# Altium schematic symbol library ICs.SchLib: 29 symbols (part 1 of 2)
Pins are listed as number, name and electrical type; pins without a type are passive.

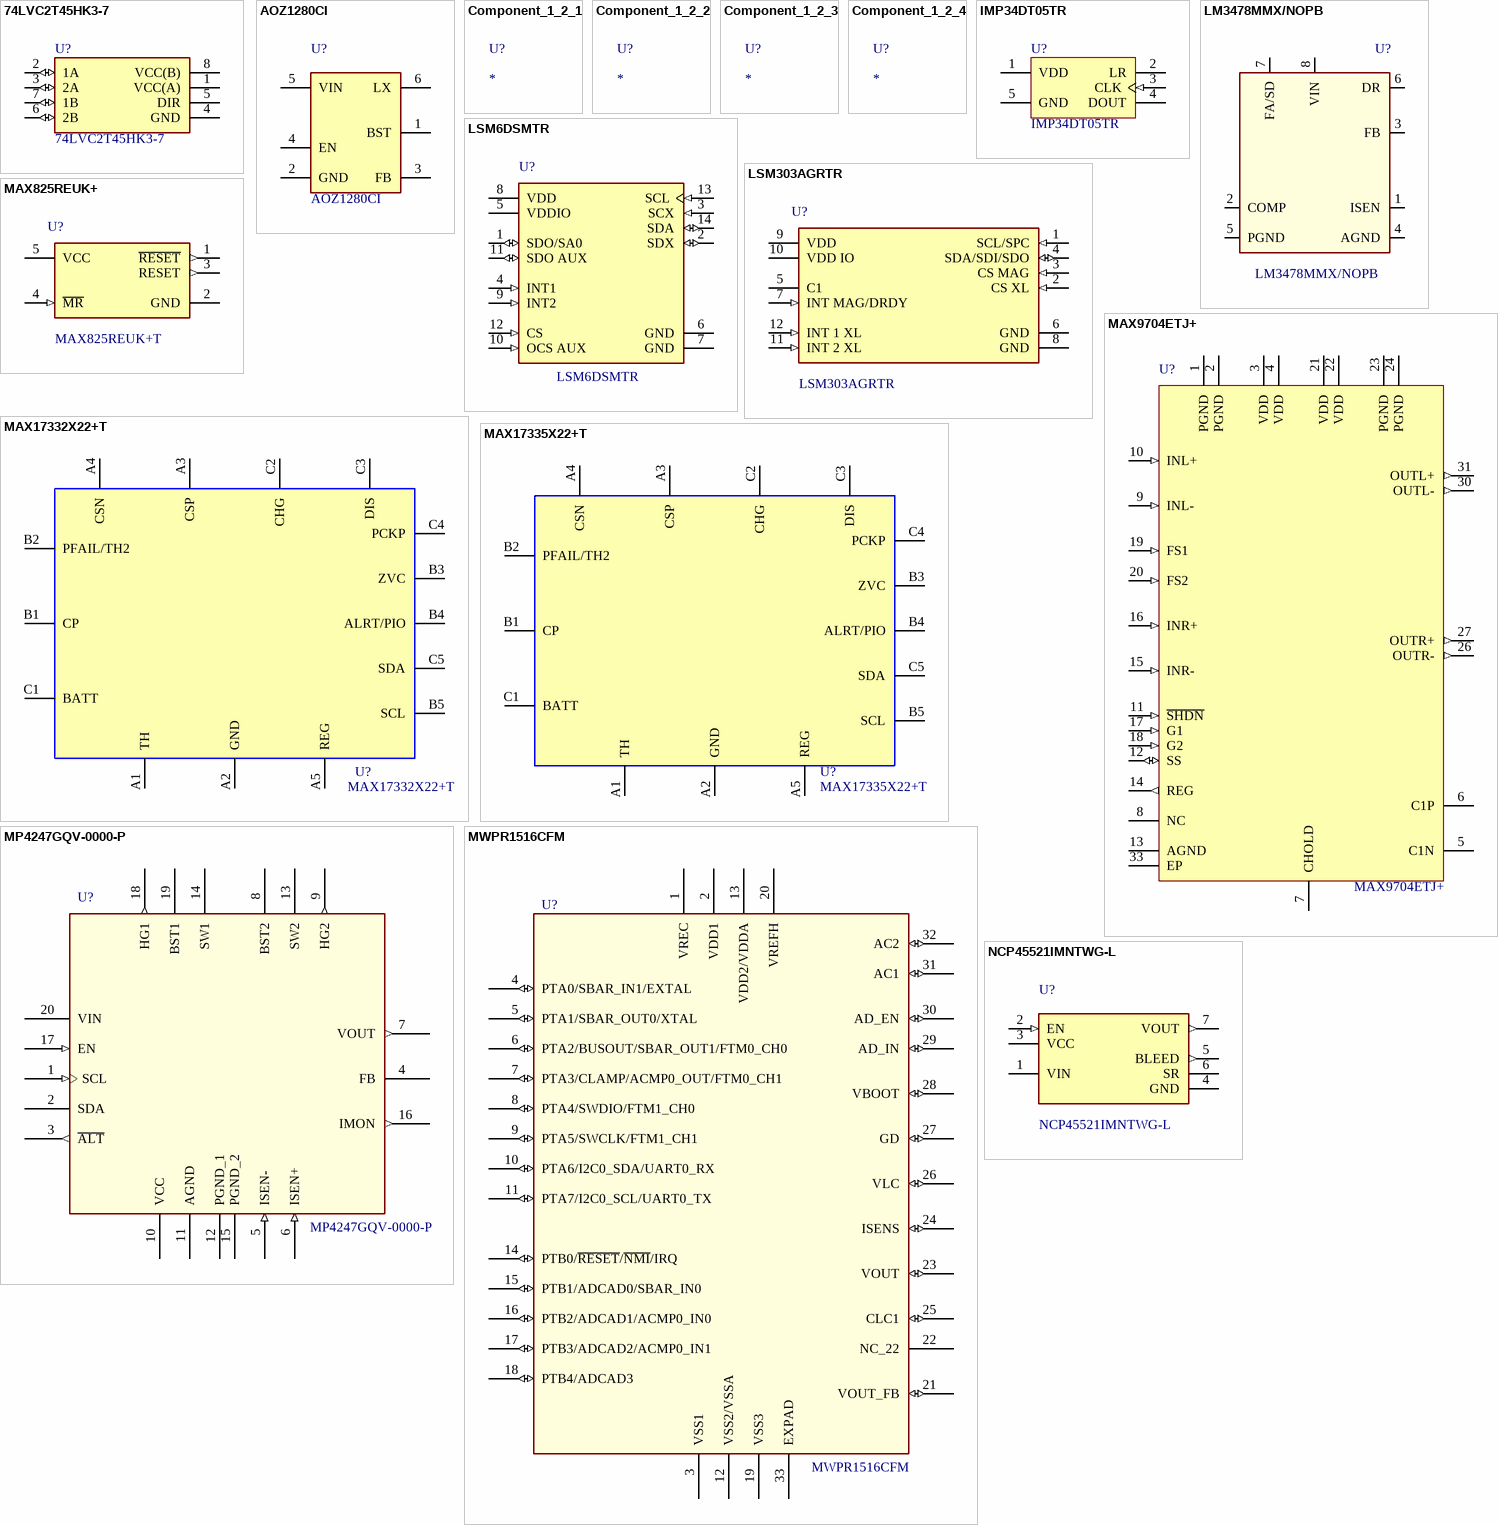
[diagram p0: symbols 74LVC2T45HK3-7 to NCP45521IMNTWG-L]

## 74LVC2T45HK3-7
designator U?
Transceiver, Translating, -40 To 150Degc Rohs Compliant: Yes |Diodes Inc. 74LVC2T45HK3-7; Manufacturer: Diodes; Library: Hexabitz; Supplier: Digikey; Supplier Part Number: 31-74LVC2T45HK3-7DKR-ND; Manufacturer Part Number: 74LVC2T45HK3-7; RoHS: No; Category: Voltage Level Shifters; Stock: 12877; Pricing: 1=0.27, 10=0.184, 25=0.1632, 100=0.1398, 250=0.12876, 500=0.12208, 1000=0.11659, 2500=0.11414 (USD); Supplier 1: Digikey; Supplier Part Number 1: 31-74LVC2T45HK3-7DKR-ND
footprint X2-DFN1410-8
pins: 1 VCC(A) (power), 2 1A (io), 3 2A (io), 4 GND (power), 5 DIR, 6 2B (io), 7 1B (io), 8 VCC(B) (power)

## AOZ1280CI
designator U?
Conv DC-DC 3V to 26V Step Down Single-Out 0.8V to 26V 1.2A 6-Pin SOT-23 T/R; Manufacturer: Alpha & Omega Semiconductor; Library: Hexabitz; Frequency: 1.5MHz; Max Supply Voltage: 23V; Supplier: Digikey; Supplier Part Number: 785-1277-6-ND; RoHS: Yes; Category: Voltage Regulators - Switching; Stock: 522946; Pricing: 1=1.04, 10=0.751, 25=0.678, 100=0.5979, 250=0.55972, 500=0.53664, 1000=0.51767 (USD); Min Supply Voltage: 3V; ComponentLink1URL: https://datasheet.ciiva.com/26861/getdatasheetpartid-627689-26861543.pdf?src-supplier=Verical; ComponentLink1Description: https://datasheet.ciiva.com/26861/getdatasheetpartid-627689-26861543.pdf?src-supplier=Verical; ComponentLink2URL: https://datasheet.ciiva.com/2037/aoz1280ci-2037058.pdf?src-supplier=Digikey; ComponentLink2Description: https://datasheet.ciiva.com/2037/aoz1280ci-2037058.pdf?src-supplier=Digikey; ComponentLink3URL: https://datasheet.ciiva.com/2037/aoz1280ci-2037059.pdf?src-supplier=Digikey; ComponentLink3Description: https://datasheet.ciiva.com/2037/aoz1280ci-2037059.pdf?src-supplier=Digikey; ComponentLink4URL: https://datasheet.ciiva.com/2037/aoz1280ci-2037060.pdf?src-supplier=Digikey; ComponentLink4Description: https://datasheet.ciiva.com/2037/aoz1280ci-2037060.pdf?src-supplier=Digikey; Supplier 1: Digikey; Supplier Part Number 1: 785-1277-6-ND; Manufacturer Part Number: AOZ1280CI
footprint SOT95P280X125-6N
pins: 1 BST, 2 GND, 3 FB, 4 EN, 5 VIN, 6 LX

## Component_1_2_1
designator U?
Library: Hexabitz

## Component_1_2_2
designator U?
Library: Hexabitz

## Component_1_2_3
designator U?
Library: Hexabitz

## Component_1_2_4
designator U?
Library: Hexabitz

## IMP34DT05TR
designator U?
IMP34DT05: 3.6V MEMS Audio Sensor Omnidirectional Digital Microphone - HCLGA-4LD; Manufacturer: STMicroelectronics; Library: Hexabitz; Shape: Rectangular; Voltage Rating: 1.8V; Operating Supply Current: 650uA; Value: 100pF; Frequency: 2.4MHz; Min Supply Voltage: 1.6V; Power Supply Rejection Ratio (PSRR): 64dB; Manufacturer Part Number: IMP34DT05TR; RoHS: Yes; Category: Microphones; Stock: 2701; Pricing: 1=1.87, 10=1.72, 50=1.52, 100=1.44, 1000=1.25, 10000=1.14 (USD); Min Operating Temperature: -40°C; Max Operating Temperature: 85°C; Direction: Omnidirectional; Packaging: Cut Tape; Termination: Solder; Series: -; Current: 650uA; Max Supply Voltage: 3.6V; Nominal Supply Current: 650uA; Operating Supply Voltage: 1.8V; Signal to Noise Ratio (SNR): 64dB; Height: 1.1mm; RoHS Compliant: Yes; ComponentLink1URL: https://www.st.com/resource/en/datasheet/imp34dt05.pdf?src-supplier=Digikey; ComponentLink1Description: https://www.st.com/resource/en/datasheet/imp34dt05.pdf?src-supplier=Digikey; Supplier: Digikey; Supplier Part Number: 497-18183-6-ND; Supplier 1: Mouser; Supplier Part Number 1: 511-IMP34DT05TR; Supplier 2: Digikey; Supplier Part Number 2: 497-18183-6-ND
footprint FP-HCLGA4_DM00231908-MFG
pins: 1 VDD (power), 2 LR, 3 CLK (in), 4 DOUT, 5 GND (power)

## LM3478MMX/NOPB
designator U?
IC REG CTRLR MULT TOP 8VSSOP; Manufacturer: TI National Semiconductor; Library: Hexabitz; Number of Outputs: 1; Output Voltage: 1.26V; Output Current: 1A; Clock Frequency: 1MHz; Duty Cycle: 100%; Quiescent Current: 2.7mA; Operating Supply Voltage: 40V; Topology: Boost,Flyback,SEPIC; Output Configuration: Positive; Synchronous Rectifier: No; Supplier: Digikey; Supplier Part Number: LM3478MMX/NOPBDKR-ND; RoHS: Yes; Category: Voltage Regulators - Switching; Stock: 2695; Pricing: 1=2.34, 10=1.735, 25=1.5836, 100=1.4176, 250=1.3384, 500=1.29068, 1000=1.25137 (USD); Mounting Technology: Surface Mount; Case/Package: VSSOP; Pins: 8; Min Operating Temperature: -40°C; Max Operating Temperature: 125°C; Packaging: Tape and Reel; Switching Frequency: 1MHz; Max Duty Cycle: 100%; Series: -; Number of Output Phases: 1; Clock Sync: No; Lead Free: Lead Free; RoHS Compliant: Yes; ComponentLink1URL: https://datasheet.ciiva.com/6597/lm3478-6597062.pdf?src-supplier=Digikey; ComponentLink1Description: https://datasheet.ciiva.com/6597/lm3478-6597062.pdf?src-supplier=Digikey; ComponentLink2URL: https://datasheet.ciiva.com/6597/lm3478-6597063.pdf?src-supplier=Digikey; ComponentLink2Description: https://datasheet.ciiva.com/6597/lm3478-6597063.pdf?src-supplier=Digikey; Supplier 1: Digikey; Supplier Part Number 1: LM3478MMX/NOPBDKR-ND; Supplier 2: Mouser; Supplier Part Number 2: 926-LM3478MMX/NOPB; Manufacturer Part Number: LM3478MMX/NOPB
footprint DGK0008A_N (TSOP, 8-Leads, Body 3.1x3.1mm, Pitch 0.65mm, IPC Medium Density)
pins: 1 ISEN, 2 COMP, 3 FB (power), 4 AGND, 5 PGND, 6 DR, 7 FA/SD, 8 VIN

## LSM6DSMTR
designator U?
iNEMO inertial module: 3D accelerometer and 3D gyroscope; Manufacturer: STMicroelectronics; Library: Hexabitz; Min Supply Voltage: 1.71V; Max Supply Voltage: 3.6V; Sensor Type: Accelerometer,Gyroscope,6 Axis,Temperature; Output Type: SPI,I2C; Operating Supply Voltage: 1.8V; Supplier: Digikey; Supplier Part Number: 497-16696-6-ND; RoHS: Yes; Category: Inertial Measurement Units (IMUs); Stock: 16945; Pricing: 1=3.92, 10=2.965, 25=2.7248, 100=2.461, 250=2.33524, 500=2.25944, 1000=2.19705, 2500=2.13118 (USD); Mounting Technology: Surface Mount; Case/Package: LGA; Pins: 14; Min Operating Temperature: -40°C; Max Operating Temperature: 85°C; Packaging: Cut Tape; Series: -; Height: 860um; Reach SVHC Compliant: No; RoHS Compliant: Yes; ComponentLink1URL: http://www.farnell.com/datasheets/2151220.pdf?src-supplier=Farnell; ComponentLink1Description: http://www.farnell.com/datasheets/2151220.pdf?src-supplier=Farnell; ComponentLink2URL: https://www.mouser.com/ds/2/389/lsm6dsm-973702.pdf?src-supplier=Mouser; ComponentLink2Description: https://www.mouser.com/ds/2/389/lsm6dsm-973702.pdf?src-supplier=Mouser; ComponentLink3URL: https://datasheet.octopart.com/LSM6DSMTR-STMicroelectronics-datasheet-141402780.pdf?src-supplier=Element14; ComponentLink3Description: https://datasheet.octopart.com/LSM6DSMTR-STMicroelectronics-datasheet-141402780.pdf?src-supplier=Element14; ComponentLink4URL: http://www.farnell.com/datasheets/2151220.pdf?src-supplier=Newark; ComponentLink4Description: http://www.farnell.com/datasheets/2151220.pdf?src-supplier=Newark; ComponentLink5URL: https://datasheet.octopart.com/LSM6DSMTR-STMicroelectronics-datasheet-79471837.pdf?src-supplier=Future+Electronics; ComponentLink5Description: https://datasheet.octopart.com/LSM6DSMTR-STMicroelectronics-datasheet-79471837.pdf?src-supplier=Future+Electronics; ComponentLink6URL: http://www.st.com/content/ccc/resource/sales_and_marketing/promotional_material/flyer/7a/04/ee/af/e2/19/46/66/fllsm6dsm0216.pdf/files/fllsm6dsm0216.pdf/jcr:content/translations/en.fllsm6dsm0216.pdf?src-supplier=Digikey; ComponentLink6Description: http://www.st.com/content/ccc/resource/sales_and_marketing/promotional_material/flyer/7a/04/ee/af/e2/19/46/66/fllsm6dsm0216.pdf/files/fllsm6dsm0216.pdf/jcr:content/translations/en.fllsm6dsm0216.pdf?src-supplier=Digikey; ComponentLink7URL: http://www.st.com/content/ccc/resource/technical/document/datasheet/76/27/cf/88/c5/03/42/6b/DM00218116.pdf/files/DM00218116.pdf/jcr:content/translations/en.DM00218116.pdf?src-supplier=Digikey; ComponentLink7Description: http://www.st.com/content/ccc/resource/technical/document/datasheet/76/27/cf/88/c5/03/42/6b/DM00218116.pdf/files/DM00218116.pdf/jcr:content/translations/en.DM00218116.pdf?src-supplier=Digikey; ComponentLink8URL: https://datasheet.octopart.com/LSM6DSMTR-STMicroelectronics-datasheet-62333594.pdf?src-supplier=Newark; ComponentLink8Description: https://datasheet.octopart.com/LSM6DSMTR-STMicroelectronics-datasheet-62333594.pdf?src-supplier=Newark; Supplier 1: Digikey; Supplier Part Number 1: 497-16696-6-ND; Manufacturer Part Number: LSM6DSMTR
footprint FP-LGA-14L-DM00249496-MFG
pins: 1 SDO/SA0 (io), 2 SDX (io), 3 SCX (in), 4 INT1 (in), 5 VDDIO (power), 6 GND (power), 7 GND (power), 8 VDD (power), 9 INT2 (in), 10 OCS AUX (in), 11 SDO AUX (io), 12 CS (in), 13 SCL (in), 14 SDA (io)

## LSM303AGRTR
designator U?
IMU ACCEL/MAG I2C/SPI 12LGA / ultra-low-power 3D accelerometer and 3D magnetometer; Manufacturer: STMicroelectronics; Library: Hexabitz; Axis: 6196AxisType; Supplier: Digikey; Supplier Part Number: 497-16527-6-ND; RoHS: Yes; Category: Inertial Measurement Units (IMUs); Stock: 23456; Pricing: 1=5, 5=4.49, 10=4.301, 25=4.074, 50=3.9188, 100=3.7768, 500=3.519 (USD); Height: 1mm; ComponentLink1URL: http://www.farnell.com/datasheets/2151221.pdf?src-supplier=Farnell; ComponentLink1Description: http://www.farnell.com/datasheets/2151221.pdf?src-supplier=Farnell; ComponentLink2URL: https://www.mouser.com/ds/2/389/lsm303agr-954987.pdf?src-supplier=Mouser; ComponentLink2Description: https://www.mouser.com/ds/2/389/lsm303agr-954987.pdf?src-supplier=Mouser; ComponentLink3URL: https://datasheet.octopart.com/LSM303AGRTR-STMicroelectronics-datasheet-67357094.pdf?src-supplier=Element14; ComponentLink3Description: https://datasheet.octopart.com/LSM303AGRTR-STMicroelectronics-datasheet-67357094.pdf?src-supplier=Element14; ComponentLink4URL: http://www.farnell.com/datasheets/2151221.pdf?src-supplier=Newark; ComponentLink4Description: http://www.farnell.com/datasheets/2151221.pdf?src-supplier=Newark; ComponentLink5URL: http://www.st.com/content/ccc/resource/technical/document/datasheet/74/c4/19/54/62/c5/46/13/DM00177685.pdf/files/DM00177685.pdf/jcr:content/translations/en.DM00177685.pdf?src-supplier=Digikey; ComponentLink5Description: http://www.st.com/content/ccc/resource/technical/document/datasheet/74/c4/19/54/62/c5/46/13/DM00177685.pdf/files/DM00177685.pdf/jcr:content/translations/en.DM00177685.pdf?src-supplier=Digikey; Supplier 1: Digikey; Supplier Part Number 1: 497-16527-6-ND; Manufacturer Part Number: LSM303AGRTR
footprint FP-LGA-12-8487206-MFG
pins: 1 SCL/SPC (in), 2 CS XL (in), 3 CS MAG (in), 4 SDA/SDI/SDO (io), 5 C1, 6 GND (power), 7 INT MAG/DRDY (in), 8 GND (power), 9 VDD (power), 10 VDD IO (power), 11 INT 2 XL (in), 12 INT 1 XL (in)

## MAX825REUK+
designator U?  Manufacturer Part Number: MAX825REUK+T  (hidden comment: MAX825REUK+)
Processor Supervisor 2.63V 2.5V/3V/3.3V/5V 5-Pin SOT-23 T/R; Manufacturer: Maxim; Library: Hexabitz; Supplier: Digikey; RoHS: Yes; Category: Voltage Supervisors; Stock: 5079; Pricing: 1=5.92, 10=4.537, 25=4.1916, 100=3.8115, 250=3.63028, 500=3.52106, 1000=3.43115 (USD); ComponentLink1URL: https://datasheet.ciiva.com/1973/max823-max825z-1973548.pdf?src-supplier=Digikey; ComponentLink1Description: https://datasheet.ciiva.com/1973/max823-max825z-1973548.pdf?src-supplier=Digikey; ComponentLink2URL: https://datasheet.ciiva.com/1973/max823-max825z-1973549.pdf?src-supplier=Digikey; ComponentLink2Description: https://datasheet.ciiva.com/1973/max823-max825z-1973549.pdf?src-supplier=Digikey; ComponentLink3URL: https://datasheet.ciiva.com/1973/max823-max825z-1973550.pdf?src-supplier=Digikey; ComponentLink3Description: https://datasheet.ciiva.com/1973/max823-max825z-1973550.pdf?src-supplier=Digikey; Supplier 1: Digikey; Supplier Part Number 1: MAX825REUK+TDKR-ND; Supplier Part Number: MAX825REUK+TDKR-ND
footprint FP-U5-1-MFG
pins: 1 ~{RESET} (out), 2 GND (power), 3 RESET (out), 4 ~{MR} (in), 5 VCC (power)

## MAX9704ETJ+
designator U?
Audio Amp Speaker 2-CH Stereo 16W Class-D 32-Pin TQFN EP; Manufacturer: Maxim; Library: Hexabitz; ComponentLink1URL: https://datasheet.ciiva.com/2967/max9703-max9704-2967821.pdf?src-supplier=Avnet; ComponentLink1Description: https://datasheet.ciiva.com/2967/max9703-max9704-2967821.pdf?src-supplier=Avnet; ComponentLink2URL: https://datasheet.ciiva.com/1792/max9703-max9704-1792107.pdf?src-supplier=Digikey; ComponentLink2Description: https://datasheet.ciiva.com/1792/max9703-max9704-1792107.pdf?src-supplier=Digikey; Supplier: Digikey; Supplier Part Number: MAX9704ETJ+-ND; Manufacturer Part Number: MAX9704ETJ+; RoHS: Yes; Category: Amplifiers - Audio; Stock: 3637; Pricing: 1=5.53, 10=4.249, 43=3.77558, 129=3.52744, 258=3.425 (USD); Supplier 1: Digikey; Supplier Part Number 1: MAX9704ETJ+-ND
footprint QFN65P700X700X80-33N; pin to pad 26>26+25 27>27+28 30>30+29 31>31+32
pins: 1 PGND (power), 2 PGND (power), 3 VDD (power), 4 VDD (power), 5 C1N, 6 C1P, 7 CHOLD, 8 NC, 9 INL- (in), 10 INL+ (in), 11 ~{SHDN} (in), 12 SS (io), 13 AGND (power), 14 REG (out), 15 INR- (in), 16 INR+ (in), 17 G1 (in), 18 G2 (in), 19 FS1 (in), 20 FS2 (in), 21 VDD (power), 22 VDD (power), 23 PGND (power), 24 PGND (power), 26 OUTR- (out), 27 OUTR+ (out), 30 OUTL- (out), 31 OUTL+ (out), 33 EP (power)

## MAX17332X22+T
designator U?
AccuCharge + ModelGauge m5 EZ 1-Cell Charger, Fuel Gauge, and Protector; Manufacturer: Analog Devices; Library: Hexabitz; Supplier: Mouser; Supplier Part Number: 700-MAX17332X22+T; RoHS: No; Stock: 412; Pricing: 1=8.28, 10=5.89, 50=5.62, 100=4.88, 1000=3.7, 10000=3.38 (USD); ComponentLink1Description: datasheet; ComponentLink1URL: https://www.analog.com/media/en/technical-documentation/data-sheets/max17332.pdf; Parameter 1: *; ComponentLink2Description: Manufature Page; ComponentLink2URL: https://www.analog.com/en/products/max17332.html?ADICID=synd_ww_portfolio_pi_octopart_na_2024; Manufacturer Part Number: MAX17332X22+T
footprint BGA15C50P5X3_245X191X69
pins: A1 TH, A2 GND, A3 CSP, A4 CSN, A5 REG, B1 CP, B2 PFAIL/TH2, B3 ZVC, B4 ALRT/PIO, B5 SCL, C1 BATT, C2 CHG, C3 DIS, C4 PCKP, C5 SDA

## MAX17335X22+T
designator U?
AccuCharge + ModelGauge m5 EZ 1-Cell Charger, Fuel Gauge, and Protector; Manufacturer: Analog Devices; Library: Hexabitz; Supplier: Digikey; Supplier Part Number: 175-MAX17335X22+TDKR-ND; Manufacturer Part Number: MAX17335X22+T; RoHS: No; Pricing: 1=6.44, 10=4.947, 25=4.5748, 100=4.1656, 250=3.97048, 500=3.85286, 1000=3.75603 (USD); Supplier 1: Digikey; Supplier Part Number 1: 175-MAX17335X22+TDKR-ND; Supplier 2: Mouser; Supplier Part Number 2: 584-MAX17335X22+T; Supplier 3: Verical; Supplier Part Number 3: MAX17335X22+T; Supplier 4: Arrow Electronics; Supplier Part Number 4: MAX17335X22+T
footprint BGA15C50P5X3_245X191X69
pins: A1 TH, A2 GND, A3 CSP, A4 CSN, A5 REG, B1 CP, B2 PFAIL/TH2, B3 ZVC, B4 ALRT/PIO, B5 SCL, C1 BATT, C2 CHG, C3 DIS, C4 PCKP, C5 SDA

## MP4247GQV-0000-P
designator U?
36V 100W Buck-Boost Converter with Integrated Low-Side Power MOSFETs and I2C Interface; Manufacturer: Monolithic Power Systems; Library: Hexabitz; ComponentLink1Description: datasheet; ComponentLink1URL: https://www.monolithicpower.com/en/documentview/productdocument/index/version/2/document_type/Datasheet/lang/en/sku/MP4247GQV/document_id/9935/; ComponentLink2Description: manufacture page; ComponentLink2URL: https://www.monolithicpower.com/en/mp4247.html; Supplier: Mouser; Supplier Part Number: 946-MP4247GQV0000P; RoHS: No; Pricing: 1=5.28, 10=3.63, 50=3.39, 100=2.98, 1000=1.97, 10000=1.96 (USD); Stock: 1000; Supplier 1: Monolithic Power Systems; Supplier Part Number 1: MP4247GQV-0000-P; Manufacturer Part Number: MP4247GQV-0000-P
footprint QFN20_3P1X5P1MM
pins: 1 SCL (in), 2 SDA, 3 ~{ALT} (out), 4 FB, 5 ISEN- (in), 6 ISEN+ (in), 7 VOUT (out), 8 BST2, 9 HG2 (out), 10 VCC (power), 11 AGND (power), 12 PGND_1 (power), 13 SW2, 14 SW1, 15 PGND_2 (power), 16 IMON (out), 17 EN (in), 18 HG1 (out), 19 BST1, 20 VIN (power)

## MWPR1516CFM
designator U?
Wireless Charger Receiver ASSP with ARM Cortex-M0+ core, 16KB Flash,; Manufacturer: NXP Semiconductors; Library: Hexabitz; Supplier: Mouser; Supplier Part Number: 841-MWPR1516CFM; RoHS: No; Category: Power Management ICs; Stock: 1443; Pricing: 1=4.3, 10=3.91, 50=3.31, 100=3.11, 1000=2.45, 10000=2.34 (USD); ComponentLink1URL: http://www.mouser.com/ds/2/302/WPR1516-783294.pdf?src-supplier=Mouser; ComponentLink1Description: http://www.mouser.com/ds/2/302/WPR1516-783294.pdf?src-supplier=Mouser; ComponentLink2URL: http://cache.freescale.com/files/microcontrollers/doc/data_sheet/WPR1516.pdf?src-supplier=Avnet; ComponentLink2Description: http://cache.freescale.com/files/microcontrollers/doc/data_sheet/WPR1516.pdf?src-supplier=Avnet; ComponentLink3URL: https://datasheet.octopart.com/MWPR1516CFM-NXP-Semiconductors-datasheet-145017605.pdf?src-supplier=LCSC; ComponentLink3Description: https://datasheet.octopart.com/MWPR1516CFM-NXP-Semiconductors-datasheet-145017605.pdf?src-supplier=LCSC; ComponentLink4Description: package-information; ComponentLink4URL: https://www.nxp.com/docs/en/package-information/SOT1426-2.pdf; ComponentLink5Description: ata-sheet; ComponentLink5URL: https://www.nxp.com/docs/en/data-sheet/WPR1516.pdf; Supplier 1: Digikey; Supplier Part Number 1: MWPR1516CFM-ND; Manufacturer Part Number: MWPR1516CFM
footprint QFN32_S142EP
pins: 1 VREC (power), 2 VDD1 (power), 3 VSS1 (power), 4 PTA0/SBAR_IN1/EXTAL (io), 5 PTA1/SBAR_OUT0/XTAL (io), 6 PTA2/BUSOUT/SBAR_OUT1/FTM0_CH0 (io), 7 PTA3/CLAMP/ACMP0_OUT/FTM0_CH1 (io), 8 PTA4/SWDIO/FTM1_CH0 (io), 9 PTA5/SWCLK/FTM1_CH1 (io), 10 PTA6/I2C0_SDA/UART0_RX (io), 11 PTA7/I2C0_SCL/UART0_TX (io), 12 VSS2/VSSA (power), 13 VDD2/VDDA (power), 14 PTB0/~{RESET}/~{NMI}/IRQ (io), 15 PTB1/ADCAD0/SBAR_IN0 (io), 16 PTB2/ADCAD1/ACMP0_IN0 (io), 17 PTB3/ADCAD2/ACMP0_IN1 (io), 18 PTB4/ADCAD3 (io), 19 VSS3 (power), 20 VREFH (power), 21 VOUT_FB (io), 22 NC_22, 23 VOUT (io), 24 ISENS (io), 25 CLC1 (io), 26 VLC (io), 27 GD (io), 28 VBOOT (io), 29 AD_IN (io), 30 AD_EN (io), 31 AC1 (io), 32 AC2 (io), 33 EXPAD (power)

## NCP45521IMNTWG-L
designator U?
Load Switch, Integrated, ecoSWITCH™, 11.5 A, Fault Protection; Manufacturer: onsemi; Library: Hexabitz; Number of Outputs: 1; Max Power Dissipation: 2.5W; Interface: On/Off; Max Output current: 10.5A; Voltage: 5.5V; Current: 750A; Fault Protection: Over Temperature; Output Configuration: High Side; Supply Current: 500uA; Supplier: Digikey; Supplier Part Number: NCP45521IMNTWG-LOSDKR-ND; RoHS: Yes; Category: Power Management ICs; Stock: 8636; Pricing: 1=2.25, 10=1.406, 25=1.186, 100=0.9371, 250=0.81472, 500=0.73944, 1000=0.67639 (USD); Mounting Technology: Surface Mount; Case/Package: DFN; Pins: 8; Min Operating Temperature: -40°C; Max Operating Temperature: 85°C; Packaging: Tape and Reel; Package Quantity: 3000; Power Rating: 2.5W; Series: ecoSWITCH™; Length: 1mm; Width: 2mm; Height: 0.95mm; Radiation Hardening: No; Lead Free: Lead Free; Halogen Free: Halogen Free; RoHS Compliant: Yes; ComponentLink1URL: https://datasheet.ciiva.com/8142/ncp45520-d-8142902.pdf?src-supplier=Avnet; ComponentLink1Description: https://datasheet.ciiva.com/8142/ncp45520-d-8142902.pdf?src-supplier=Avnet; Supplier 1: Mouser; Supplier Part Number 1: 863-NCP45521IMNTWG-L; Supplier 2: Digikey; Supplier Part Number 2: NCP45521IMNTWG-LOSDKR-ND; Manufacturer Part Number: NCP45521IMNTWG-L
footprint 8-DFN; pin to pad 1>1+9 7>7+8
pins: 1 VIN (power), 2 EN (in), 3 VCC (power), 4 GND, 5 BLEED (out), 6 SR, 7 VOUT (out)

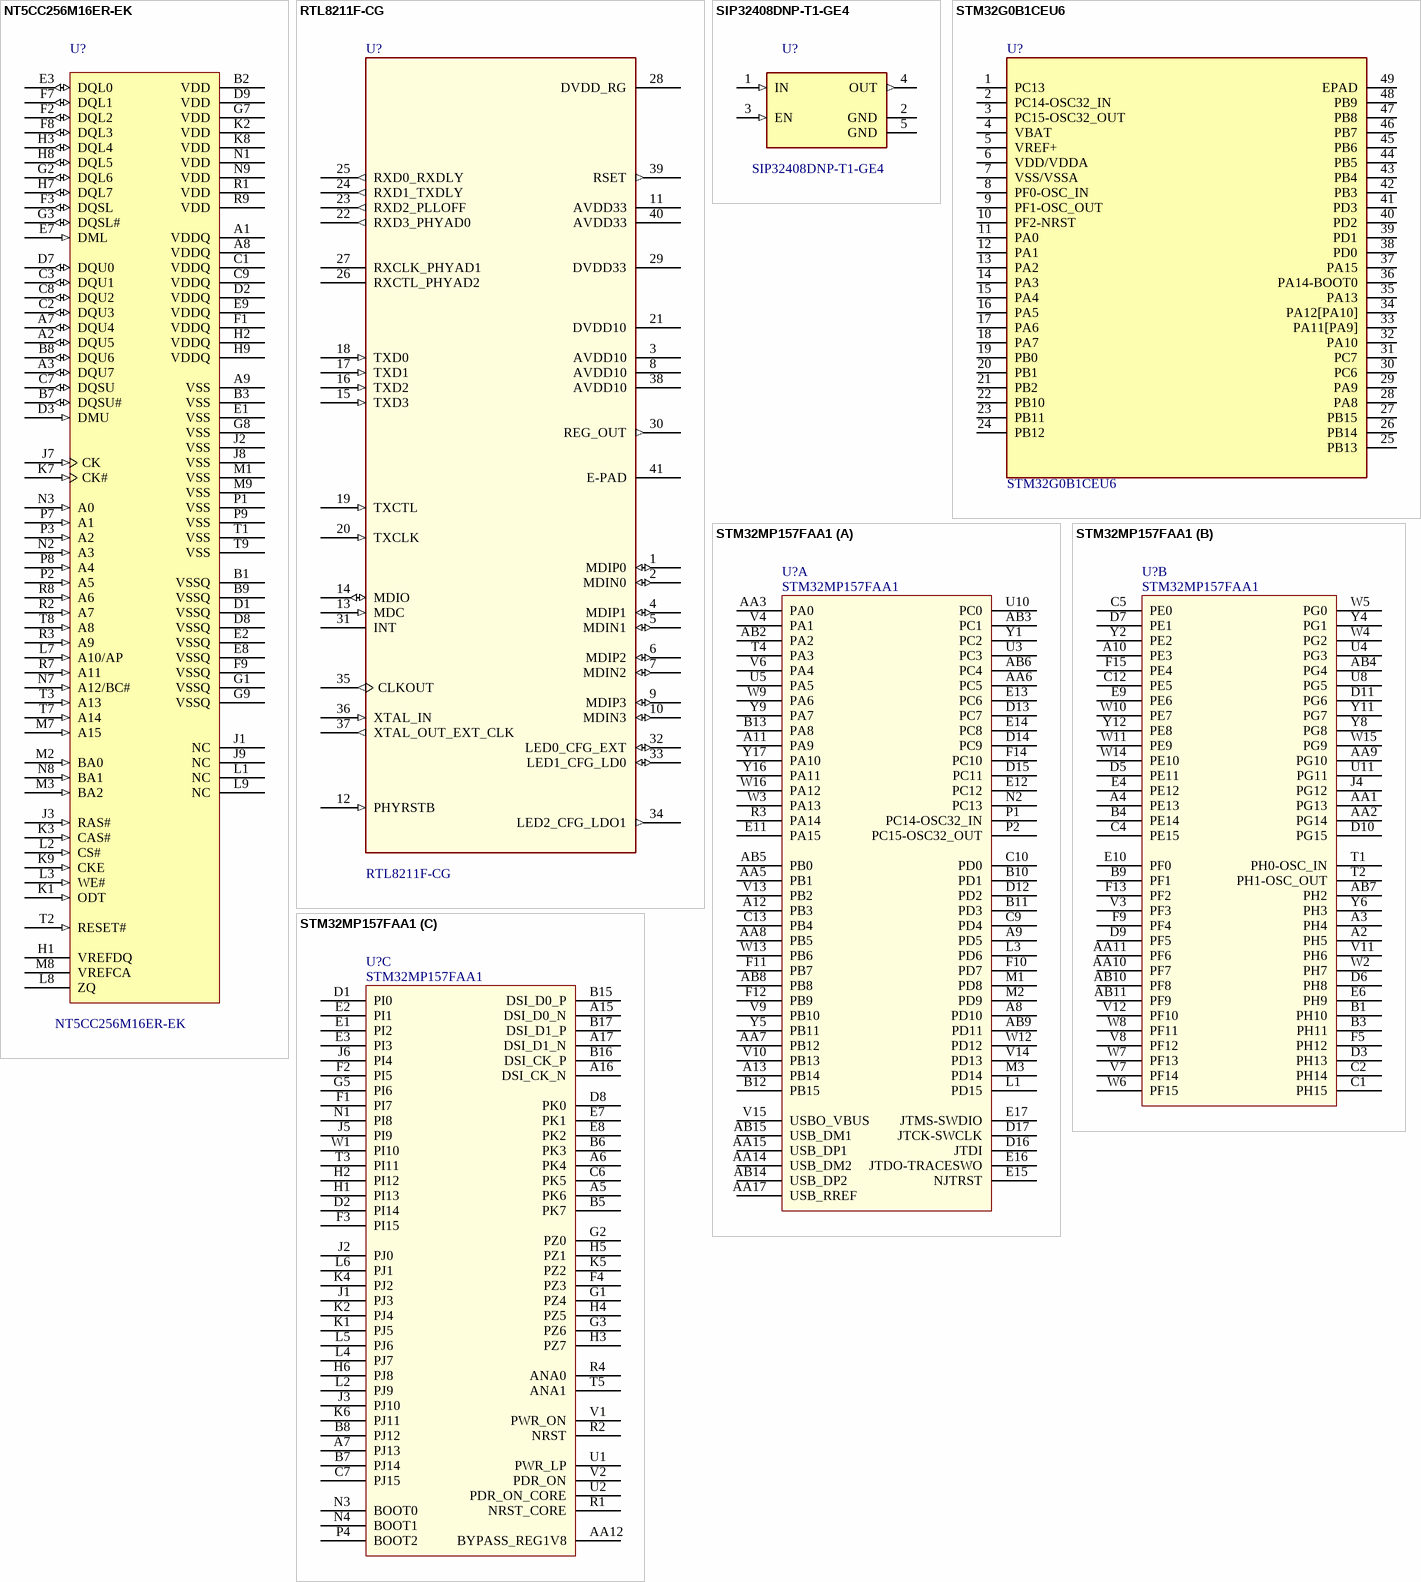
[diagram p1: symbols NT5CC256M16ER-EK to STM32MP157FAA1]

## NT5CC256M16ER-EK
designator U?
DRAM Chip DDR3L SDRAM 4Gbit 256Mx16 1.35V 96-Pin TFBGA; Manufacturer: Nanya; Library: Hexabitz; Supplier: Sourcengine; Supplier Part Number: NT5CC256M16ER-EK; RoHS: Yes; Category: LDO; Stock: 10000; RoHS Compliant: Yes; Supplier 1: Sourcengine; Supplier Part Number 1: NT5CC256M16ER-EK; Manufacturer Part Number: NT5CC256M16ER-EK
footprint ICC_FBGA96_9X13_8X14_P080_DI
pins: A1 VDDQ (power) "DQ Power Supply: 1.5 V +/- 0.075 V for standard voltage or 1.35V +0.1V, -0.067V for low voltage", A2 DQU5 (io) "Data Input/ Output: Bi-directional data bus.", A3 DQU7 (io) "Data Input/ Output: Bi-directional data bus.", A7 DQU4 (io) "Data Input/ Output: Bi-directional data bus.", A8 VDDQ (power) "DQ Power Supply: 1.5 V +/- 0.075 V for standard voltage or 1.35V +0.1V, -0.067V for low voltage", A9 VSS (power) "Ground", B1 VSSQ (power) "DQ Ground", B2 VDD (power) "Power Supply: 1.5 V +/- 0.075 V for standard voltage or 1.35V +0.1V, -0.067V for low voltage", B3 VSS (power) "Ground", B7 DQSU# (io) "Data Strobe: output with read data, input with write data. Edge-aligned with read data, centered in write data. For the x16, DQSL corresponds to the data on DQL0-DQL7; DQSU corresponds to the data on DQU0-DQU7. The data strobes DQS, DQSL, and DQSU are pa", B8 DQU6 (io) "Data Input/ Output: Bi-directional data bus.", B9 VSSQ (power) "DQ Ground", C1 VDDQ (power) "DQ Power Supply: 1.5 V +/- 0.075 V for standard voltage or 1.35V +0.1V, -0.067V for low voltage", C2 DQU3 (io) "Data Input/ Output: Bi-directional data bus.", C3 DQU1 (io) "Data Input/ Output: Bi-directional data bus.", C7 DQSU (io) "Data Strobe: output with read data, input with write data. Edge-aligned with read data, centered in write data. For the x16, DQSL corresponds to the data on DQL0-DQL7; DQSU corresponds to the data on DQU0-DQU7. The data strobes DQS, DQSL, and DQSU are pa", C8 DQU2 (io) "Data Input/ Output: Bi-directional data bus.", C9 VDDQ (power) "DQ Power Supply: 1.5 V +/- 0.075 V for standard voltage or 1.35V +0.1V, -0.067V for low voltage", D1 VSSQ (power) "DQ Ground", D2 VDDQ (power) "DQ Power Supply: 1.5 V +/- 0.075 V for standard voltage or 1.35V +0.1V, -0.067V for low voltage", D3 DMU (in) "Input Data Mask: DM is an input mask signal for write data. Input data is masked when DM is sampled HIGH coincident with that input data during a Write access. DM is sampled on both edges of DQS. For x8 device, the function of DM or TDQS/TDQS# is enabled", D7 DQU0 (io) "Data Input/ Output: Bi-directional data bus.", D8 VSSQ (power) "DQ Ground", D9 VDD (power) "Power Supply: 1.5 V +/- 0.075 V for standard voltage or 1.35V +0.1V, -0.067V for low voltage", E1 VSS (power) "Ground", E2 VSSQ (power) "DQ Ground", E3 DQL0 (io) "Data Input/ Output: Bi-directional data bus.", E7 DML (in) "Input Data Mask: DM is an input mask signal for write data. Input data is masked when DM is sampled HIGH coincident with that input data during a Write access. DM is sampled on both edges of DQS. For x8 device, the function of DM or TDQS/TDQS# is enabled", E8 VSSQ (power) "DQ Ground", E9 VDDQ (power) "DQ Power Supply: 1.5 V +/- 0.075 V for standard voltage or 1.35V +0.1V, -0.067V for low voltage", F1 VDDQ (power) "DQ Power Supply: 1.5 V +/- 0.075 V for standard voltage or 1.35V +0.1V, -0.067V for low voltage", F2 DQL2 (io) "Data Input/ Output: Bi-directional data bus.", F3 DQSL (io) "Data Strobe: output with read data, input with write data. Edge-aligned with read data, centered in write data. For the x16, DQSL corresponds to the data on DQL0-DQL7; DQSU corresponds to the data on DQU0-DQU7. The data strobes DQS, DQSL, and DQSU are pa", F7 DQL1 (io) "Data Input/ Output: Bi-directional data bus.", F8 DQL3 (io) "Data Input/ Output: Bi-directional data bus.", F9 VSSQ (power) "DQ Ground", G1 VSSQ (power) "DQ Ground", G2 DQL6 (io) "Data Input/ Output: Bi-directional data bus.", G3 DQSL# (io) "Data Strobe: output with read data, input with write data. Edge-aligned with read data, centered in write data. For the x16, DQSL corresponds to the data on DQL0-DQL7; DQSU corresponds to the data on DQU0-DQU7. The data strobes DQS, DQSL, and DQSU are pa", G7 VDD (power) "Power Supply: 1.5 V +/- 0.075 V for standard voltage or 1.35V +0.1V, -0.067V for low voltage", G8 VSS (power) "Ground", G9 VSSQ (power) "DQ Ground", H1 VREFDQ "Reference voltage for DQ", H2 VDDQ (power) "DQ Power Supply: 1.5 V +/- 0.075 V for standard voltage or 1.35V +0.1V, -0.067V for low voltage", H3 DQL4 (io) "Data Input/ Output: Bi-directional data bus.", H7 DQL7 (io) "Data Input/ Output: Bi-directional data bus.", H8 DQL5 (io) "Data Input/ Output: Bi-directional data bus.", H9 VDDQ (power) "DQ Power Supply: 1.5 V +/- 0.075 V for standard voltage or 1.35V +0.1V, -0.067V for low voltage", J1 NC "No Connect: No internal electrical connection is present.", J2 VSS (power) "Ground", J3 RAS# (in) "Command Inputs: RAS#, CAS# and WE# (along with CS#) define the command being entered.", J7 CK (in) "Clock: CK and CK# are differential clock inputs. All address and control input signals are sampled on the crossing of the positive edge of CK and negative edge of CK#.", J8 VSS (power) "Ground", J9 NC "No Connect: No internal electrical connection is present.", K1 ODT (in) "On Die Termination: ODT (registered HIGH) enables termination resistance internal to the DDR3 SDRAM. When enabled, ODT is only applied to each DQ, DQSU, DQSU#, DQSL, DQSL#, DMU, and DML signal. The ODT pin will be ignored if MR1 and MR2 are programmed to", K2 VDD (power) "Power Supply: 1.5 V +/- 0.075 V for standard voltage or 1.35V +0.1V, -0.067V for low voltage", K3 CAS# (in) "Command Inputs: RAS#, CAS# and WE# (along with CS#) define the command being entered.", K7 CK# (in) "Clock: CK and CK# are differential clock inputs. All address and control input signals are sampled on the crossing of the positive edge of CK and negative edge of CK#.", K8 VDD (power) "Power Supply: 1.5 V +/- 0.075 V for standard voltage or 1.35V +0.1V, -0.067V for low voltage", K9 CKE (in) "Clock Enable: CKE HIGH activates, and CKE Low deactivates, internal clock signals and device input buffers and output drivers. Taking CKE Low provides Precharge Power-Down and Self-Refresh operation (all banks idle), or Active Power-Down (row Active in a", L1 NC "No Connect: No internal electrical connection is present.", L2 CS# (in) "Chip Select: All commands are masked when CS# is registered HIGH. CS# provides for external Rank selection on systems with multiple Ranks. CS# is considered part of the command code.", L3 WE# (in) "Command Inputs: RAS#, CAS# and WE# (along with CS#) define the command being entered.", L7 A10/AP (in) "Auto-precharge: A10 is sampled during Read/Write commands to determine whether Autoprecharge should be performed to the accessed bank after the Read/Write operation. (HIGH: Autoprecharge; LOW: no Autoprecharge). A10 is sampled during a Precharge command", L8 ZQ "Reference Pin for ZQ", L9 NC "No Connect: No internal electrical connection is present.", M1 VSS (power) "Ground", M2 BA0 (in) "Bank Address Inputs: BA0 - BA2 define to which bank an Active, Read, Write, or Precharge command is being applied. Bank address also determines which mode register is to be accessed during a MRS cycle.", M3 BA2 (in) "Bank Address Inputs: BA0 - BA2 define to which bank an Active, Read, Write, or Precharge command is being applied. Bank address also determines which mode register is to be accessed during a MRS cycle.", M7 A15 (in) "Burst Chop: A12 / BC# is sampled during Read and Write commands to determine if burst chop (on-the-fly) will be performed. (HIGH, no burst chop; LOW: burst chopped). See command truth table for details.", M8 VREFCA "Reference voltage for CA", M9 VSS (power) "Ground", N1 VDD (power) "Power Supply: 1.5 V +/- 0.075 V for standard voltage or 1.35V +0.1V, -0.067V for low voltage", N2 A3 (in) "Address Inputs: Provide the row address for Active commands and the column address for Read/ Write commands to select one location out of the memory array in the respective bank. (A10/AP and A12/BC# have additional functions; see below). The address inpu", N3 A0 (in) "Address Inputs: Provide the row address for Active commands and the column address for Read/ Write commands to select one location out of the memory array in the respective bank. (A10/AP and A12/BC# have additional functions; see below). The address inpu", N7 A12/BC# (in) "Burst Chop: A12 / BC# is sampled during Read and Write commands to determine if burst chop (on-the-fly) will be performed. (HIGH, no burst chop; LOW: burst chopped). See command truth table for details.", N8 BA1 (in) "Bank Address Inputs: BA0 - BA2 define to which bank an Active, Read, Write, or Precharge command is being applied. Bank address also determines which mode register is to be accessed during a MRS cycle.", N9 VDD (power) "Power Supply: 1.5 V +/- 0.075 V for standard voltage or 1.35V +0.1V, -0.067V for low voltage", P1 VSS (power) "Ground", P2 A5 (in) "Address Inputs: Provide the row address for Active commands and the column address for Read/ Write commands to select one location out of the memory array in the respective bank. (A10/AP and A12/BC# have additional functions; see below). The address inpu", P3 A2 (in) "Address Inputs: Provide the row address for Active commands and the column address for Read/ Write commands to select one location out of the memory array in the respective bank. (A10/AP and A12/BC# have additional functions; see below). The address inpu", P7 A1 (in) "Address Inputs: Provide the row address for Active commands and the column address for Read/ Write commands to select one location out of the memory array in the respective bank. (A10/AP and A12/BC# have additional functions; see below). The address inpu", P8 A4 (in) "Address Inputs: Provide the row address for Active commands and the column address for Read/ Write commands to select one location out of the memory array in the respective bank. (A10/AP and A12/BC# have additional functions; see below). The address inpu", P9 VSS (power) "Ground", R1 VDD (power) "Power Supply: 1.5 V +/- 0.075 V for standard voltage or 1.35V +0.1V, -0.067V for low voltage", R2 A7 (in) "Address Inputs: Provide the row address for Active commands and the column address for Read/ Write commands to select one location out of the memory array in the respective bank. (A10/AP and A12/BC# have additional functions; see below). The address inpu", R3 A9 (in) "Address Inputs: Provide the row address for Active commands and the column address for Read/ Write commands to select one location out of the memory array in the respective bank. (A10/AP and A12/BC# have additional functions; see below). The address inpu", R7 A11 (in) "Address Inputs: Provide the row address for Active commands and the column address for Read/ Write commands to select one location out of the memory array in the respective bank. (A10/AP and A12/BC# have additional functions; see below). The address inpu", R8 A6 (in) "Address Inputs: Provide the row address for Active commands and the column address for Read/ Write commands to select one location out of the memory array in the respective bank. (A10/AP and A12/BC# have additional functions; see below). The address inpu", R9 VDD (power) "Power Supply: 1.5 V +/- 0.075 V for standard voltage or 1.35V +0.1V, -0.067V for low voltage", T1 VSS (power) "Ground", T2 RESET# (in) "Active Low Asynchronous Reset: Reset is active when RESET# is LOW, and inactive when RESET# is HIGH. RESET# must be HIGH during normal operation. RESET# is a CMOS rail- to-rail signal with DC high and low at 80% and 20% of VDD, i.e., 1.20V for DC high an", T3 A13 (in) "Burst Chop: A12 / BC# is sampled during Read and Write commands to determine if burst chop (on-the-fly) will be performed. (HIGH, no burst chop; LOW: burst chopped). See command truth table for details.", T7 A14 (in) "Burst Chop: A12 / BC# is sampled during Read and Write commands to determine if burst chop (on-the-fly) will be performed. (HIGH, no burst chop; LOW: burst chopped). See command truth table for details.", T8 A8 (in) "Address Inputs: Provide the row address for Active commands and the column address for Read/ Write commands to select one location out of the memory array in the respective bank. (A10/AP and A12/BC# have additional functions; see below). The address inpu", T9 VSS (power) "Ground"

## RTL8211F-CG
designator U?
Phy 1-CH 10MBPS/100MBPS/1GBPS 3.3V 40-PIN QFN Ep; Manufacturer: Realtek; Library: Hexabitz; Supplier: Worldway Electronics; Supplier Part Number: RTL8211F-CG; RoHS: No; Category: Amplifiers - Op Amps, Buffer, Instrumentation; Stock: 10205; Pricing: 2=0.5612, 10=0.55, 100=0.5331, 500=0.5163, 1000=0.5051 (USD); RoHS Compliant: No; Supplier 1: Worldway Electronics; Supplier Part Number 1: RTL8211F-CG; Manufacturer Part Number: RTL8211F-CG
footprint ICC_QFN40-EPAD_5X5_P040
pins: 1 MDIP0 (io), 2 MDIN0 (io), 3 AVDD10 (power), 4 MDIP1 (io), 5 MDIN1 (io), 6 MDIP2 (io), 7 MDIN2 (io), 8 AVDD10 (power), 9 MDIP3 (io), 10 MDIN3 (io), 11 AVDD33 (power), 12 PHYRSTB (in), 13 MDC (in), 14 MDIO (io), 15 TXD3 (in), 16 TXD2 (in), 17 TXD1 (in), 18 TXD0 (in), 19 TXCTL (in), 20 TXCLK (in), 21 DVDD10 (power), 22 RXD3_PHYAD0 (out), 23 RXD2_PLLOFF (out), 24 RXD1_TXDLY (out), 25 RXD0_RXDLY (out), 26 RXCTL_PHYAD2, 27 RXCLK_PHYAD1, 28 DVDD_RG (power), 29 DVDD33 (power), 30 REG_OUT (out), 31 INT, 32 LED0_CFG_EXT (io), 33 LED1_CFG_LD0 (io), 34 LED2_CFG_LDO1 (out), 35 CLKOUT (out), 36 XTAL_IN (in), 37 XTAL_OUT_EXT_CLK (out), 38 AVDD10 (power), 39 RSET (out), 40 AVDD33 (power), 41 E-PAD (power)

## SIP32408DNP-T1-GE4
designator U?
SWITCH, SLEW CNTRL, 5.5V, 3.5A, 4TDFN; Power Load Switch Type: High Side; Input V; Manufacturer: Vishay Siliconix; Library: Hexabitz; Number of Outputs: 1; Max Power Dissipation: 735mW; Min Supply Voltage: 1.1V; Interface: On/Off; On-State Resistance: 44mR; Fault Protection: Reverse Current; Supplier: Digikey; Supplier Part Number: SIP32408DNP-T1-GE4DKR-ND; RoHS: Yes; Category: Hot Swap Controllers; Stock: 19922; Pricing: 1=0.46, 10=0.321, 25=0.286, 100=0.2482, 250=0.23004, 500=0.21914, 1000=0.21015 (USD); Mounting Technology: Surface Mount; Pins: 4; Weight: 0.001764oz; Min Operating Temperature: -40°C; Max Operating Temperature: 85°C; Package Quantity: 3000; Packaging: Tape and Reel; Output Current: 3.5A; Max Supply Voltage: 5.5V; Max Output current: 3.5A; Power Dissipation: 735mW; Output Configuration: High Side; Series: -; Lead Free: Lead Free; RoHS Compliant: Yes; Reach SVHC Compliant: Unknown; ComponentLink1URL: https://datasheet.ciiva.com/22629/1692703-22629056.pdf?src-supplier=Element14; ComponentLink1Description: https://datasheet.ciiva.com/22629/1692703-22629056.pdf?src-supplier=Element14; ComponentLink2URL: https://datasheet.ciiva.com/12186/sip32408-244424-12186651.pdf?src-supplier=Mouser; ComponentLink2Description: https://datasheet.ciiva.com/12186/sip32408-244424-12186651.pdf?src-supplier=Mouser; Supplier 1: Digikey; Supplier Part Number 1: SIP32408DNP-T1-GE4DKR-ND; Manufacturer Part Number: SIP32408DNP-T1-GE4
footprint FP-T16-0143-MFG
pins: 1 IN (in), 2 GND (power), 3 EN (in), 4 OUT (out), 5 GND (power)

## STM32G0B1CEU6
designator U?
MCU 32-bit ARM Cortex M0+ RISC 512KB Flash 1.8V/2.5V/3.3V 48-Pin UFQFPN EP Tray; Manufacturer: STMicroelectronics; Library: Hexabitz; Supplier: Digikey; Supplier Part Number: 497-STM32G0B1CEU6-ND; Manufacturer Part Number: STM32G0B1CEU6; RoHS: Yes; Category: Microcontrollers; Stock: 4305; Pricing: 1=4.78, 10=3.635, 25=3.3488, 100=3.0347, 260=2.87923, 520=2.7899, 1040=2.71638, 2600=2.63877 (USD); Supplier 1: Digikey; Supplier Part Number 1: 497-STM32G0B1CEU6-ND
footprint QFN50P700X700X65-49N-D
pins: 1 PC13, 2 PC14-OSC32_IN, 3 PC15-OSC32_OUT, 4 VBAT, 5 VREF+, 6 VDD/VDDA, 7 VSS/VSSA, 8 PF0-OSC_IN, 9 PF1-OSC_OUT, 10 PF2-NRST, 11 PA0, 12 PA1, 13 PA2, 14 PA3, 15 PA4, 16 PA5, 17 PA6, 18 PA7, 19 PB0, 20 PB1, 21 PB2, 22 PB10, 23 PB11, 24 PB12, 25 PB13, 26 PB14, 27 PB15, 28 PA8, 29 PA9, 30 PC6, 31 PC7, 32 PA10, 33 PA11[PA9], 34 PA12[PA10], 35 PA13, 36 PA14-BOOT0, 37 PA15, 38 PD0, 39 PD1, 40 PD2, 41 PD3, 42 PB3, 43 PB4, 44 PB5, 45 PB6, 46 PB7, 47 PB8, 48 PB9, 49 EPAD

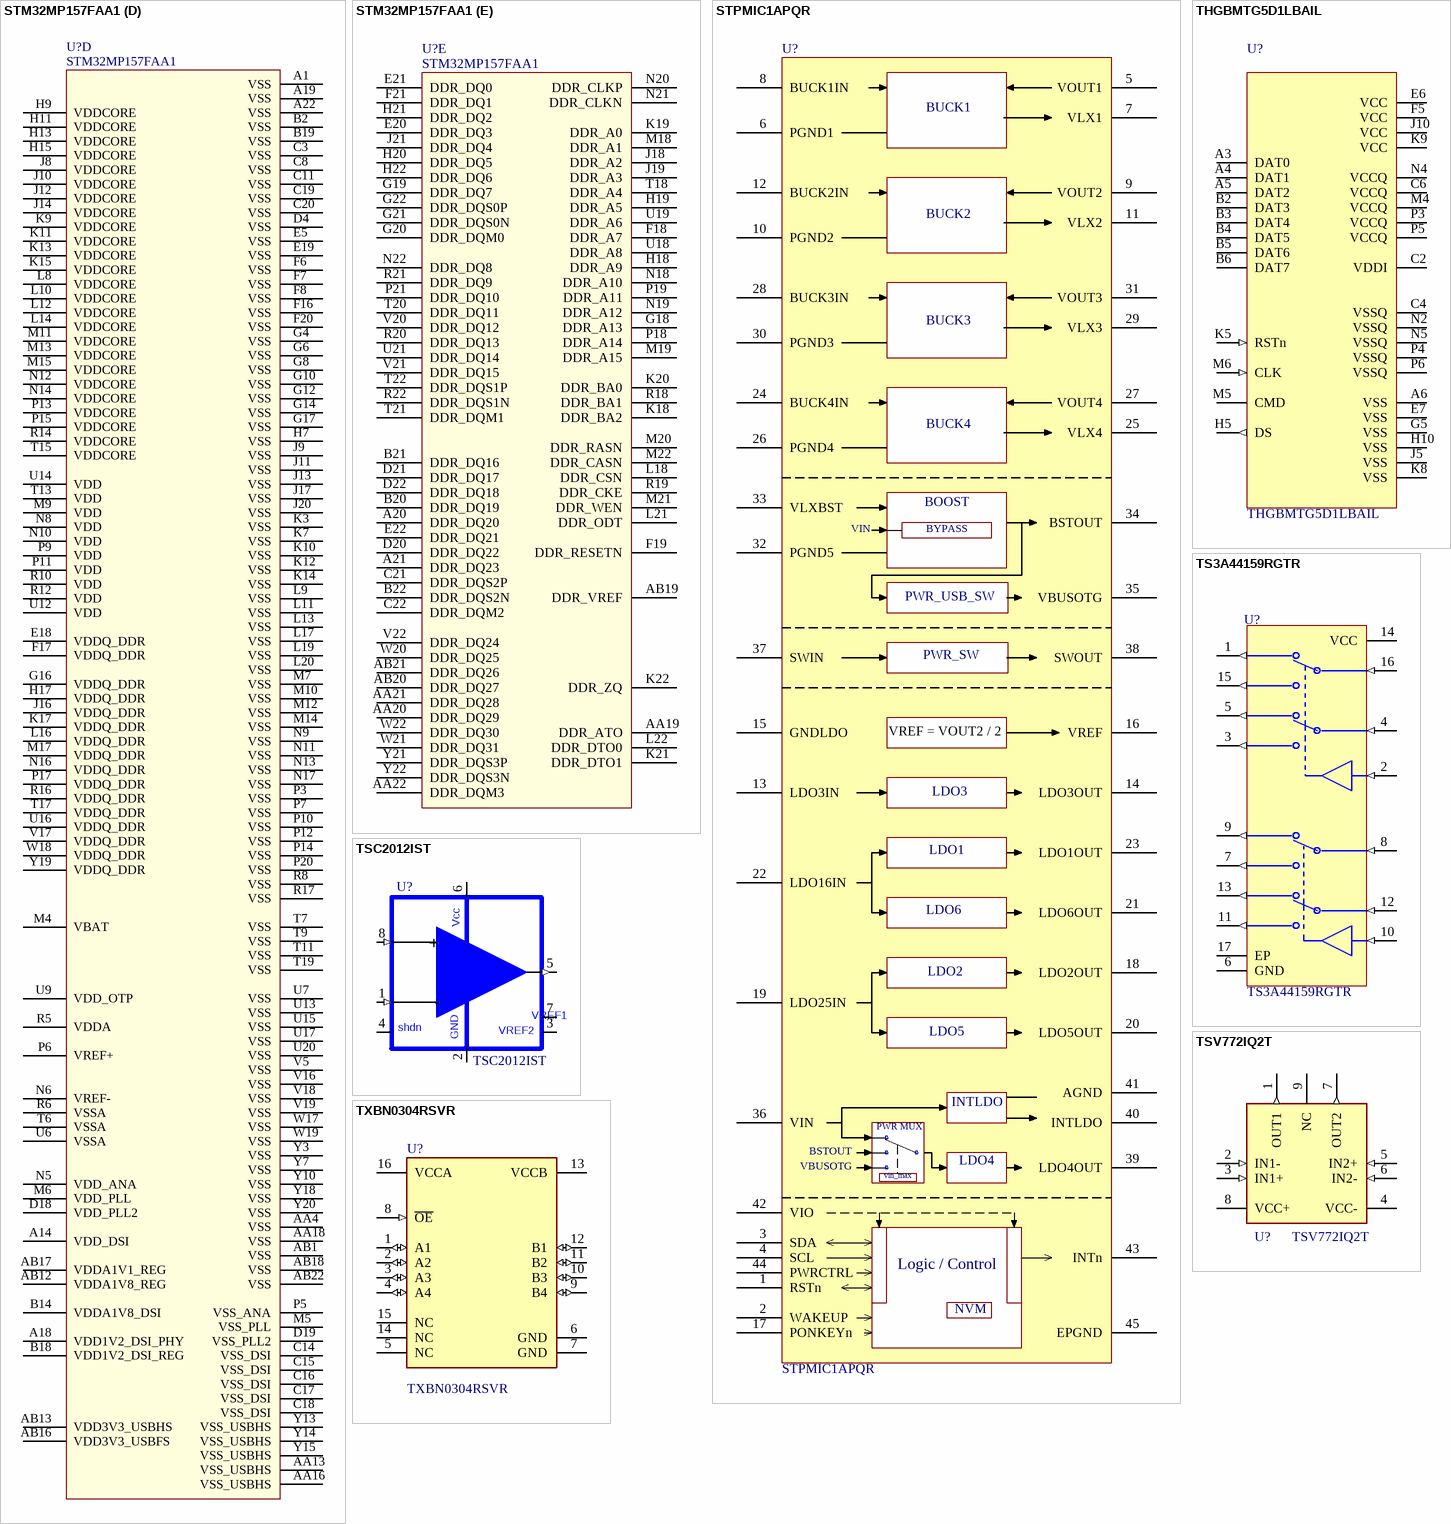
[diagram p2: symbols STM32MP157FAA1 to TXBN0304RSVR]

## STM32MP157FAA1
designator U?
Microprocessor ARM Dual Cortex-A7/ARM Cortex-M4 RISC 32-Bit 800MHz 448-Pin LFBGA Tray; Manufacturer: STMicroelectronics; Library: Hexabitz; Supplier: Digikey; Supplier Part Number: 497-STM32MP157FAA1-ND; Manufacturer Part Number: STM32MP157FAA1; RoHS: Yes; Category: Microprocessors; Stock: 400; Pricing: 1=17.92, 10=14.249, 84=12.43143, 168=12.03833, 252=11.84147, 504=11.5528 (USD); ComponentLink1URL: https://datasheet.octopart.com/STM32MP157FAA1-STMicroelectronics-datasheet-147459737.pdf?src-supplier=Future+Electronics; ComponentLink1Description: https://datasheet.octopart.com/STM32MP157FAA1-STMicroelectronics-datasheet-147459737.pdf?src-supplier=Future+Electronics; ComponentLink2URL: https://www.st.com/resource/en/datasheet/stm32mp157c.pdf?src-supplier=Digikey; ComponentLink2Description: https://www.st.com/resource/en/datasheet/stm32mp157c.pdf?src-supplier=Digikey; Supplier 1: Digikey; Supplier Part Number 1: 497-STM32MP157FAA1-ND
footprint ICC_LFBGA448_18X18_STM32MP157BAA3_P080__SOCKET_IE_CS1627194MF
part A pins: A8 PD10, A9 PD5, A11 PA9, A12 PB3, A13 PB14, AA3 PA0, AA5 PB1, AA6 PC5, AA7 PB12, AA8 PB5, AA14 USB_DM2, AA15 USB_DP1, AA17 USB_RREF, AB2 PA2, AB3 PC1, AB5 PB0, AB6 PC4, AB8 PB8, AB9 PD11, AB14 USB_DP2, AB15 USB_DM1, B10 PD1, B11 PD3, B12 PB15, B13 PA8, C9 PD4, C10 PD0, C13 PB4, D12 PD2, D13 PC7, D14 PC9, D15 PC11, D16 JTDI, D17 JTCK-SWCLK, E11 PA15, E12 PC12, E13 PC6, E14 PC8, E15 NJTRST, E16 JTDO-TRACESWO, E17 JTMS-SWDIO, F10 PD7, F11 PB7, F12 PB9, F14 PC10, L1 PD15, L3 PD6, M1 PD8, M2 PD9, M3 PD14, N2 PC13, P1 PC14-OSC32_IN, P2 PC15-OSC32_OUT, R3 PA14, T4 PA3, U3 PC3, U5 PA5, U10 PC0, V4 PA1, V6 PA4, V9 PB10, V10 PB13, V13 PB2, V14 PD13, V15 USBO_VBUS, W3 PA13, W9 PA6, W12 PD12, W13 PB6, W16 PA12, Y1 PC2, Y5 PB11, Y9 PA7, Y16 PA11, Y17 PA10
part B pins: A2 PH5, A3 PH4, A4 PE13, A10 PE3, AA1 PG13, AA2 PG14, AA9 PG10, AA10 PF7, AA11 PF6, AB4 PG4, AB7 PH2, AB10 PF8, AB11 PF9, B1 PH10, B3 PH11, B4 PE14, B9 PF1, C1 PH15, C2 PH14, C4 PE15, C5 PE0, C12 PE5, D3 PH13, D5 PE11, D6 PH8, D7 PE1, D9 PF5, D10 PG15, D11 PG6, E4 PE12, E6 PH9, E9 PE6, E10 PF0, F5 PH12, F9 PF4, F13 PF2, F15 PE4, J4 PG12, T1 PH0-OSC_IN, T2 PH1-OSC_OUT, U4 PG3, U8 PG5, U11 PG11, V3 PF3, V7 PF14, V8 PF12, V11 PH6, V12 PF10, W2 PH7, W4 PG2, W5 PG0, W6 PF15, W7 PF13, W8 PF11, W10 PE7, W11 PE9, W14 PE10, W15 PG9, Y2 PE2, Y4 PG1, Y6 PH3, Y8 PG8, Y11 PG7, Y12 PE8
part C pins: A5 PK6, A6 PK4, A7 PJ13, A15 DSI_D0_N, A16 DSI_CK_N, A17 DSI_D1_N, AA12 BYPASS_REG1V8, B5 PK7, B6 PK3, B7 PJ14, B8 PJ12, B15 DSI_D0_P, B16 DSI_CK_P, B17 DSI_D1_P, C6 PK5, C7 PJ15, D1 PI0, D2 PI14, D8 PK0, E1 PI2, E2 PI1, E3 PI3, E7 PK1, E8 PK2, F1 PI7, F2 PI5, F3 PI15, F4 PZ3, G1 PZ4, G2 PZ0, G3 PZ6, G5 PI6, H1 PI13, H2 PI12, H3 PZ7, H4 PZ5, H5 PZ1, H6 PJ8, J1 PJ3, J2 PJ0, J3 PJ10, J5 PI9, J6 PI4, K1 PJ5, K2 PJ4, K4 PJ2, K5 PZ2, K6 PJ11, L2 PJ9, L4 PJ7, L5 PJ6, L6 PJ1, N1 PI8, N3 BOOT0, N4 BOOT1, P4 BOOT2, R1 NRST_CORE, R2 NRST, R4 ANA0, T3 PI11, T5 ANA1, U1 PWR_LP, U2 PDR_ON_CORE, V1 PWR_ON, V2 PDR_ON, W1 PI10
part D pins: A1 VSS, A14 VDD_DSI, A18 VDD1V2_DSI_PHY, A19 VSS, A22 VSS, AA4 VSS, AA13 VSS_USBHS, AA16 VSS_USBHS, AA18 VSS, AB1 VSS, AB12 VDDA1V8_REG, AB13 VDD3V3_USBHS, AB16 VDD3V3_USBFS, AB17 VDDA1V1_REG, AB18 VSS, AB22 VSS, B2 VSS, B14 VDDA1V8_DSI, B18 VDD1V2_DSI_REG, B19 VSS, C3 VSS, C8 VSS, C11 VSS, C14 VSS_DSI, C15 VSS_DSI, C16 VSS_DSI, C17 VSS_DSI, C18 VSS_DSI, C19 VSS, C20 VSS, D4 VSS, D18 VDD_PLL2, D19 VSS_PLL2, E5 VSS, E18 VDDQ_DDR, E19 VSS, F6 VSS, F7 VSS, F8 VSS, F16 VSS, F17 VDDQ_DDR, F20 VSS, G4 VSS, G6 VSS, G8 VSS, G10 VSS, G12 VSS, G14 VSS, G16 VDDQ_DDR, G17 VSS, H7 VSS, H9 VDDCORE, H11 VDDCORE, H13 VDDCORE, H15 VDDCORE, H17 VDDQ_DDR, J8 VDDCORE, J9 VSS, J10 VDDCORE, J11 VSS, J12 VDDCORE, J13 VSS, J14 VDDCORE, J16 VDDQ_DDR, J17 VSS, J20 VSS, K3 VSS, K7 VSS, K9 VDDCORE, K10 VSS, K11 VDDCORE, K12 VSS, K13 VDDCORE, K14 VSS, K15 VDDCORE, K17 VDDQ_DDR, L8 VDDCORE, L9 VSS, L10 VDDCORE, L11 VSS, L12 VDDCORE, L13 VSS, L14 VDDCORE, L16 VDDQ_DDR, L17 VSS, L19 VSS, L20 VSS, M4 VBAT, M5 VSS_PLL, M6 VDD_PLL, M7 VSS, M9 VDD, M10 VSS, M11 VDDCORE, M12 VSS, M13 VDDCORE, M14 VSS, M15 VDDCORE, M17 VDDQ_DDR, N5 VDD_ANA, N6 VREF-, N8 VDD, N9 VSS, N10 VDD, N11 VSS, N12 VDDCORE, N13 VSS, N14 VDDCORE, N16 VDDQ_DDR, N17 VSS, P3 VSS, P5 VSS_ANA, P6 VREF+, P7 VSS, P9 VDD, P10 VSS, P11 VDD, P12 VSS, P13 VDDCORE, P14 VSS, P15 VDDCORE, P17 VDDQ_DDR, P20 VSS, R5 VDDA, R6 VSSA, R8 VSS, R10 VDD, R12 VDD, R14 VDDCORE, R16 VDDQ_DDR, R17 VSS, T6 VSSA, T7 VSS, T9 VSS, T11 VSS, T13 VDD, T15 VDDCORE, T17 VDDQ_DDR, T19 VSS, U6 VSSA, U7 VSS, U9 VDD_OTP, U12 VDD, U13 VSS, U14 VDD, U15 VSS, U16 VDDQ_DDR, U17 VSS, U20 VSS, V5 VSS, V16 VSS, V17 VDDQ_DDR, V18 VSS, V19 VSS, W17 VSS, W18 VDDQ_DDR, W19 VSS, Y3 VSS, Y7 VSS, Y10 VSS, Y13 VSS_USBHS, Y14 VSS_USBHS, Y15 VSS_USBHS, Y18 VSS, Y19 VDDQ_DDR, Y20 VSS
part E pins: A20 DDR_DQ20, A21 DDR_DQ23, AA19 DDR_ATO, AA20 DDR_DQ29, AA21 DDR_DQ28, AA22 DDR_DQM3, AB19 DDR_VREF, AB20 DDR_DQ27, AB21 DDR_DQ26, B20 DDR_DQ19, B21 DDR_DQ16, B22 DDR_DQS2N, C21 DDR_DQS2P, C22 DDR_DQM2, D20 DDR_DQ22, D21 DDR_DQ17, D22 DDR_DQ18, E20 DDR_DQ3, E21 DDR_DQ0, E22 DDR_DQ21, F18 DDR_A7, F19 DDR_RESETN, F21 DDR_DQ1, G18 DDR_A13, G19 DDR_DQ7, G20 DDR_DQM0, G21 DDR_DQS0N, G22 DDR_DQS0P, H18 DDR_A9, H19 DDR_A5, H20 DDR_DQ5, H21 DDR_DQ2, H22 DDR_DQ6, J18 DDR_A2, J19 DDR_A3, J21 DDR_DQ4, K18 DDR_BA2, K19 DDR_A0, K20 DDR_BA0, K21 DDR_DTO1, K22 DDR_ZQ, L18 DDR_CSN, L21 DDR_ODT, L22 DDR_DTO0, M18 DDR_A1, M19 DDR_A15, M20 DDR_RASN, M21 DDR_WEN, M22 DDR_CASN, N18 DDR_A10, N19 DDR_A12, N20 DDR_CLKP, N21 DDR_CLKN, N22 DDR_DQ8, P18 DDR_A14, P19 DDR_A11, P21 DDR_DQ10, R18 DDR_BA1, R19 DDR_CKE, R20 DDR_DQ13, R21 DDR_DQ9, R22 DDR_DQS1N, T18 DDR_A4, T20 DDR_DQ11, T21 DDR_DQM1, T22 DDR_DQS1P, U18 DDR_A8, U19 DDR_A6, U21 DDR_DQ14, V20 DDR_DQ12, V21 DDR_DQ15, V22 DDR_DQ24, W20 DDR_DQ25, W21 DDR_DQ31, W22 DDR_DQ30, Y21 DDR_DQS3P, Y22 DDR_DQS3N

## STPMIC1APQR
designator U?
Power Management Specialized - PMIC WFQFN 44L 5X6X0.8 PITCH 0.4; Manufacturer: STMicroelectronics; Library: Hexabitz; Max Supply Voltage: 5V; Max Output Voltage: 3.8V; Min Input Voltage: 2.5V; Min Output Voltage: 800mV; Min Supply Voltage: 2.8V; Number of Outputs: 14NUMBER; Output Current: 2A; Quiescent Current: 1mA; Synchronous Rectifier: 5897YesNo; Supplier: Digikey; Supplier Part Number: 497-19781-6-ND; Manufacturer Part Number: STPMIC1APQR; RoHS: Yes; Category: Power Management ICs; Stock: 4506; Pricing: 1=4.67, 10=3.548, 25=3.2684, 100=2.9604, 250=2.81364, 500=2.72514, 1000=2.65233 (USD); Min Operating Temperature: -40°C; Max Operating Temperature: 125°C; Packaging: 10Packaging; Height: 850um; RoHS Compliant: 5897YesNo; ComponentLink1URL: http://www.farnell.com/datasheets/2802536.pdf?src-supplier=Farnell; ComponentLink1Description: http://www.farnell.com/datasheets/2802536.pdf?src-supplier=Farnell; ComponentLink2URL: http://www.farnell.com/datasheets/2802536.pdf?src-supplier=Element14; ComponentLink2Description: http://www.farnell.com/datasheets/2802536.pdf?src-supplier=Element14; Supplier 1: Digikey; Supplier Part Number 1: 497-19781-6-ND
footprint FP-WFQFN44L-MFG
pins: 1 RSTn, 2 WAKEUP, 3 SDA, 4 SCL, 5 VOUT1, 6 PGND1, 7 VLX1, 8 BUCK1IN, 9 VOUT2, 10 PGND2, 11 VLX2, 12 BUCK2IN, 13 LDO3IN, 14 LDO3OUT, 15 GNDLDO, 16 VREF, 17 PONKEYn, 18 LDO2OUT, 19 LDO25IN, 20 LDO5OUT, 21 LDO6OUT, 22 LDO16IN, 23 LDO1OUT, 24 BUCK4IN, 25 VLX4, 26 PGND4, 27 VOUT4, 28 BUCK3IN, 29 VLX3, 30 PGND3, 31 VOUT3, 32 PGND5, 33 VLXBST, 34 BSTOUT, 35 VBUSOTG, 36 VIN, 37 SWIN, 38 SWOUT, 39 LDO4OUT, 40 INTLDO, 41 AGND, 42 VIO, 43 INTn, 44 PWRCTRL, 45 EPGND
text: BUCK1; BUCK2; BUCK3; BUCK4; BOOST; BYPASS; PWR_USB_SW; PWR_SW; VREF = VOUT2 / 2; LDO3; LDO1; LDO6; LDO2; LDO5; PWR MUX; LDO4; vin_max; Logic / Control; NVM

## THGBMTG5D1LBAIL
designator U?
Flash Memory Drive, CMOS, PBGA169; Manufacturer: Kioxia; Library: Hexabitz; Supplier: Digikey; Supplier Part Number: 1853-THGBMTG5D1LBAIL-ND; RoHS: No; Category: Memory; Stock: 16; Pricing: 1=6.07, 10=5.652, 25=5.4816, 50=5.3522, 152=5.14605, 304=5.01885, 608=4.89322, 1064=4.79317 (USD); ComponentLink1Description: Datasheet; ComponentLink1URL: https://octopart.com/datasheet/thgbmtg5d1lbail-kioxia-126003190; Supplier 1: Digikey; Supplier Part Number 1: 1853-THGBMTG5D1LBAIL-ND; Supplier 2: Mouser; Supplier Part Number 2: 757-THGBMTG5D1LBAIL; Manufacturer Part Number: THGBMTG5D1LBAIL
footprint ICC_P-WFBGA153_13X11P5_P050
pins: A3 DAT0, A4 DAT1, A5 DAT2, A6 VSS, B2 DAT3, B3 DAT4, B4 DAT5, B5 DAT6, B6 DAT7, C2 VDDI, C4 VSSQ, C6 VCCQ, E6 VCC, E7 VSS, F5 VCC, G5 VSS, H5 DS (out), H10 VSS, J5 VSS, J10 VCC, K5 RSTn (in), K8 VSS, K9 VCC, M4 VCCQ, M5 CMD, M6 CLK (in), N2 VSSQ, N4 VCCQ, N5 VSSQ, P3 VCCQ, P4 VSSQ, P5 VCCQ, P6 VSSQ

## TS3A44159RGTR
designator U?
Analog Switch/Analog Multiplexer Quad 1: 2 16-Pin VQFN EP T/R / IC SWITCH QUAD SPDT 16VQFN; Manufacturer: Texas Instruments; Bandwidth: 35MHz; Drain to Source Resistance: 450mR; Library: Hexabitz; ComponentLink1URL: https://datasheet.ciiva.com/15127/getdatasheetpartid-202972-15127431.pdf?src-supplier=Verical; ComponentLink1Description: https://datasheet.ciiva.com/15127/getdatasheetpartid-202972-15127431.pdf?src-supplier=Verical; ComponentLink2URL: https://datasheet.ciiva.com/41461/001187307-da-01-en-ic-switch-quad-ts3a44159rgtr-vqfn-16-tid-41461684.pdf?src-supplier=Conrad; ComponentLink2Description: https://datasheet.ciiva.com/41461/001187307-da-01-en-ic-switch-quad-ts3a44159rgtr-vqfn-16-tid-41461684.pdf?src-supplier=Conrad; ComponentLink3URL: https://datasheet.ciiva.com/1671/ts3a44159-1671052.pdf?src-supplier=Digikey; ComponentLink3Description: https://datasheet.ciiva.com/1671/ts3a44159-1671052.pdf?src-supplier=Digikey; ComponentLink4URL: https://datasheet.ciiva.com/1671/ts3a44159-1671053.pdf?src-supplier=Digikey; ComponentLink4Description: https://datasheet.ciiva.com/1671/ts3a44159-1671053.pdf?src-supplier=Digikey; ComponentLink5URL: https://datasheet.ciiva.com/1671/ts3a44159-1671054.pdf?src-supplier=Digikey; ComponentLink5Description: https://datasheet.ciiva.com/1671/ts3a44159-1671054.pdf?src-supplier=Digikey; ComponentLink6URL: https://datasheet.ciiva.com/2980/ts3a44159-2980329.pdf?src-supplier=Avnet; ComponentLink6Description: https://datasheet.ciiva.com/2980/ts3a44159-2980329.pdf?src-supplier=Avnet; ComponentLink7URL: https://datasheet.ciiva.com/2978/ts3a44159-2978963.pdf?src-supplier=Avnet; ComponentLink7Description: https://datasheet.ciiva.com/2978/ts3a44159-2978963.pdf?src-supplier=Avnet; Supplier: Digikey; Supplier Part Number: 296-21916-6-ND; RoHS: Yes; Category: Interface ICs; Stock: 3307; Pricing: 1=0.86, 10=0.615, 25=0.5536, 100=0.4863, 250=0.4542, 500=0.43484, 1000=0.41891 (USD); Thickness: 900um; Lead Free: 5697LeadFree; Supplier 1: Digikey; Supplier Part Number 1: 296-21916-6-ND; Supplier 2: Mouser; Supplier Part Number 2: 595-TS3A44159RGTR; Manufacturer Part Number: TS3A44159RGTR
footprint TEXAS_INSTRUMENTS_TS3A44159RGTR_0
footprint FP-RSV0016A-MFG; pin to pad 17>6
pins: 1 NC1 (out), 2 IN1-2 (in), 3 NO2 (out), 4 COM2 (in), 5 NC2 (out), 6 GND (power), 7 NO3 (out), 8 COM3 (in), 9 NC3 (out), 10 IN3-4 (in), 11 NO4 (out), 12 COM4 (in), 13 NC4 (out), 14 VCC (power), 15 NO1 (out), 16 COM1 (in), 17 EP (power)

## TSC2012IST
designator U?
350μA Instrumentational OP Amps 2.7V~5.5V 8-TSSOP, 8-MSOP (0.118, 3.00mm Width); Manufacturer: STMicroelectronics; Library: Hexabitz; Max Supply Current: 2.3mA; Max Supply Voltage: 5.5V; Min Supply Voltage: 2.7V; Number of Channels: 1NUMBER; Supplier: Digikey; Supplier Part Number: 497-TSC2012ISTDKR-ND; RoHS: Yes; Category: Integrated Circuits (ICs); Stock: 2640; Pricing: 1=2.34, 10=1.733, 25=1.5816, 100=1.4158, 250=1.33664, 500=1.28896, 1000=1.2497 (USD); Min Operating Temperature: -40°C; Max Operating Temperature: 125°C; Packaging: 10Packaging; ComponentLink1URL: https://datasheet.octopart.com/TSC2012IST-STMicroelectronics-datasheet-153441504.pdf?src-supplier=Element14; ComponentLink1Description: https://datasheet.octopart.com/TSC2012IST-STMicroelectronics-datasheet-153441504.pdf?src-supplier=Element14; ComponentLink2URL: https://datasheet.octopart.com/TSC2012IST-STMicroelectronics-datasheet-165583678.pdf?src-supplier=TME; ComponentLink2Description: https://datasheet.octopart.com/TSC2012IST-STMicroelectronics-datasheet-165583678.pdf?src-supplier=TME; Supplier 1: Digikey; Supplier Part Number 1: 497-TSC2012ISTDKR-ND; Manufacturer Part Number: TSC2012IST
footprint TSOP65P490X110-8N (TSOP, 8-Leads, Body 3.00x2.95mm, Pitch 0.65mm, IPC Medium Density)
pins: 1 IN- (in), 2 GND (power), 3 VREF2, 4 shdn (oc), 5 OUT (out), 6 Vcc (power), 7 VREF1, 8 IN+ (in)
text: +; -

## TSV772IQ2T
designator U?
Op Amp Dual High Bandwidth Amplifier R-R I/O 5.5V 8-Pin DFN EP T/R; Manufacturer: STMicroelectronics; Number of Channels: 2NUMBER; Library: Hexabitz; Supplier: Digikey; Supplier Part Number: 497-TSV772IQ2TDKR-ND; RoHS: No; Category: Amplifiers - Op Amps, Buffer, Instrumentation; Stock: 2980; Pricing: 1=1.37, 10=0.995, 25=0.902, 100=0.7994, 250=0.75052, 500=0.72104, 1000=0.69678 (USD); ComponentLink1URL: https://datasheet.octopart.com/TSV772IQ2T-STMicroelectronics-datasheet-165583684.pdf?src-supplier=TME; ComponentLink1Description: https://datasheet.octopart.com/TSV772IQ2T-STMicroelectronics-datasheet-165583684.pdf?src-supplier=TME; Supplier 1: Digikey; Supplier Part Number 1: 497-TSV772IQ2TCT-ND; Manufacturer Part Number: TSV772IQ2T
footprint SON50P200X200X60-9N-D
pins: 1 OUT1 (out), 2 IN1- (in), 3 IN1+ (in), 4 VCC- (power), 5 IN2+ (in), 6 IN2- (in), 7 OUT2 (out), 8 VCC+ (power), 9 NC (hiz)